# EAGLE library part AT91SAM9261 (library Atmel)
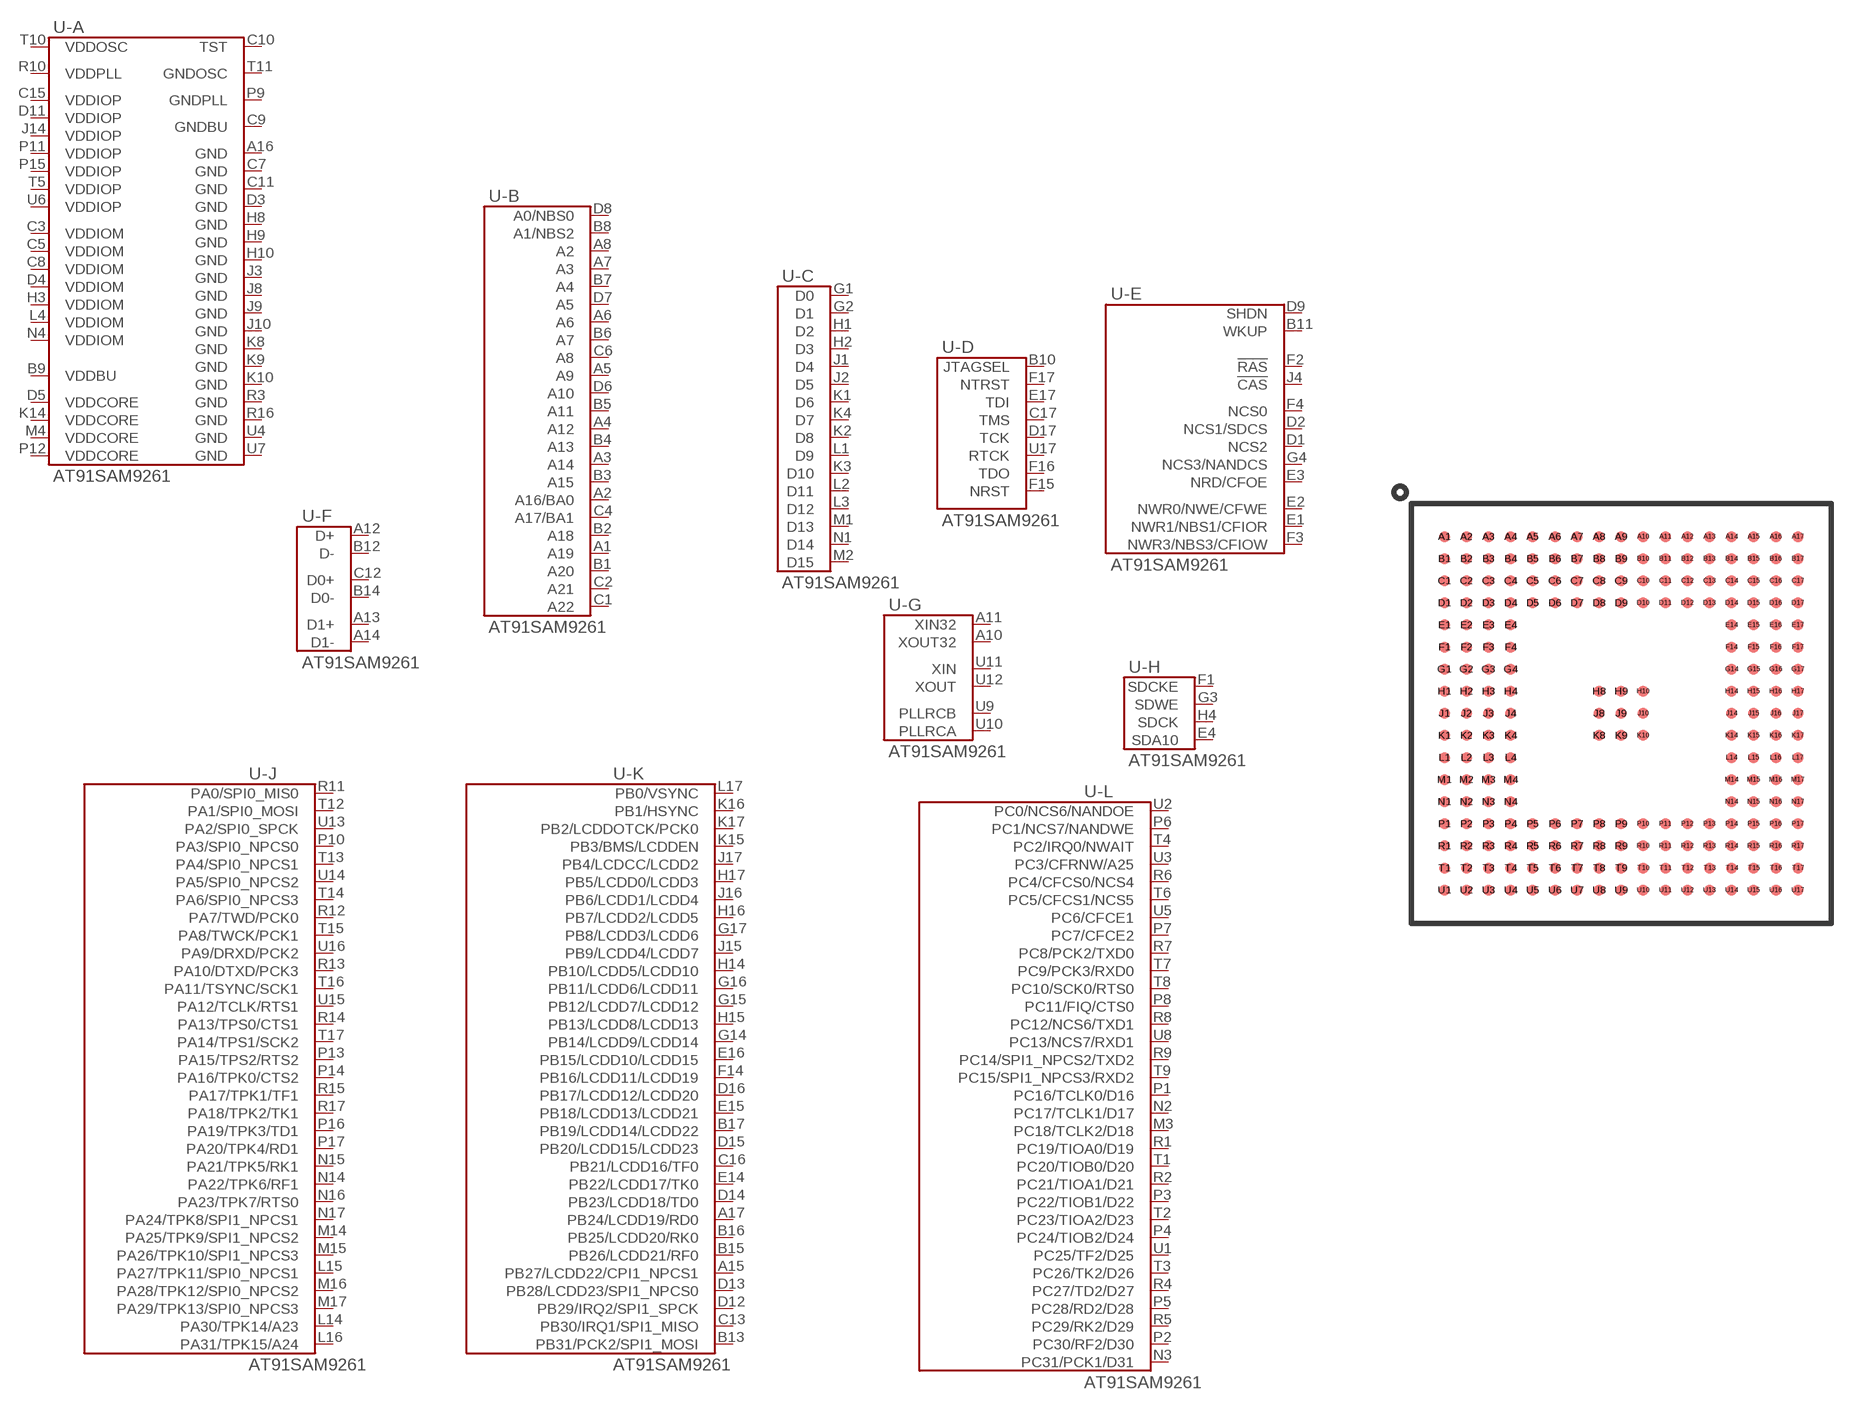
[diagram p12: symbol with the pads of LFBGA-217; footprint LFBGA-217]

Designator prefix U; gates -A=AT91SAM9261 -B=AT91SAM9261-ADDR -C=AT91SAM9261-DATA -D=AT91SAM9261-JTAG -E=AT91SAM9261-MISC -G=AT91SAM9261-OSC -J=AT91SAM9261-PORTA -K=AT91SAM9261-PORTB -L=AT91SAM9261-PORTC -H=AT91SAM9261-SD -F=AT91SAM9261-USB

## AT91SAM9261  [LFBGA-217]
A1  -B:A19
A2  -B:A16/BA0
A3  -B:A14
A4  -B:A12
A5  -B:A9
A6  -B:A6
A7  -B:A3
A8  -B:A2
A10  -G:XOUT32
A11  -G:XIN32
A12  -F:D+
A13  -F:D1+
A14  -F:D1-
A15  -K:PB27/LCDD22/CPI1_NPCS1
A16  -A:GND
A17  -K:PB24/LCDD19/RD0
B1  -B:A20
B2  -B:A18
B3  -B:A15
B4  -B:A13
B5  -B:A11
B6  -B:A7
B7  -B:A4
B8  -B:A1/NBS2
B9  -A:VDDBU
B10  -D:JTAGSEL
B11  -E:WKUP
B12  -F:D-
B13  -K:PB31/PCK2/SPI1_MOSI
B14  -F:D0-
B15  -K:PB26/LCDD21/RF0
B16  -K:PB25/LCDD20/RK0
B17  -K:PB19/LCDD14/LCDD22
C1  -B:A22
C2  -B:A21
C3  -A:VDDIOM
C4  -B:A17/BA1
C5  -A:VDDIOM
C6  -B:A8
C7  -A:GND
C8  -A:VDDIOM
C9  -A:GNDBU
C10  -A:TST
C11  -A:GND
C12  -F:D0+
C13  -K:PB30/IRQ1/SPI1_MISO
C15  -A:VDDIOP
C16  -K:PB21/LCDD16/TF0
C17  -D:TMS
D1  -E:NCS2
D2  -E:NCS1/SDCS
D3  -A:GND
D4  -A:VDDIOM
D5  -A:VDDCORE
D6  -B:A10
D7  -B:A5
D8  -B:A0/NBS0
D9  -E:SHDN
D11  -A:VDDIOP
D12  -K:PB29/IRQ2/SPI1_SPCK
D13  -K:PB28/LCDD23/SPI1_NPCS0
D14  -K:PB23/LCDD18/TD0
D15  -K:PB20/LCDD15/LCDD23
D16  -K:PB17/LCDD12/LCDD20
D17  -D:TCK
E1  -E:NWR1/NBS1/CFIOR
E2  -E:NWR0/NWE/CFWE
E3  -E:NRD/CFOE
E4  -H:SDA10
E14  -K:PB22/LCDD17/TK0
E15  -K:PB18/LCDD13/LCDD21
E16  -K:PB15/LCDD10/LCDD15
E17  -D:TDI
F1  -H:SDCKE
F2  -E:!RAS
F3  -E:NWR3/NBS3/CFIOW
F4  -E:NCS0
F14  -K:PB16/LCDD11/LCDD19
F15  -D:NRST
F16  -D:TDO
F17  -D:NTRST
G1  -C:D0
G2  -C:D1
G3  -H:SDWE
G4  -E:NCS3/NANDCS
G14  -K:PB14/LCDD9/LCDD14
G15  -K:PB12/LCDD7/LCDD12
G16  -K:PB11/LCDD6/LCDD11
G17  -K:PB8/LCDD3/LCDD6
H1  -C:D2
H2  -C:D3
H3  -A:VDDIOM
H4  -H:SDCK
H8  -A:GND
H9  -A:GND
H10  -A:GND
H14  -K:PB10/LCDD5/LCDD10
H15  -K:PB13/LCDD8/LCDD13
H16  -K:PB7/LCDD2/LCDD5
H17  -K:PB5/LCDD0/LCDD3
J1  -C:D4
J2  -C:D5
J3  -A:GND
J4  -E:!CAS
J8  -A:GND
J9  -A:GND
J10  -A:GND
J14  -A:VDDIOP
J15  -K:PB9/LCDD4/LCDD7
J16  -K:PB6/LCDD1/LCDD4
J17  -K:PB4/LCDCC/LCDD2
K1  -C:D6
K2  -C:D8
K3  -C:D10
K4  -C:D7
K8  -A:GND
K9  -A:GND
K10  -A:GND
K14  -A:VDDCORE
K15  -K:PB3/BMS/LCDDEN
K16  -K:PB1/HSYNC
K17  -K:PB2/LCDDOTCK/PCK0
L1  -C:D9
L2  -C:D11
L3  -C:D12
L4  -A:VDDIOM
L14  -J:PA30/TPK14/A23
L15  -J:PA27/TPK11/SPI0_NPCS1
L16  -J:PA31/TPK15/A24
L17  -K:PB0/VSYNC
M1  -C:D13
M2  -C:D15
M3  -L:PC18/TCLK2/D18
M4  -A:VDDCORE
M14  -J:PA25/TPK9/SPI1_NPCS2
M15  -J:PA26/TPK10/SPI1_NPCS3
M16  -J:PA28/TPK12/SPI0_NPCS2
M17  -J:PA29/TPK13/SPI0_NPCS3
N1  -C:D14
N2  -L:PC17/TCLK1/D17
N3  -L:PC31/PCK1/D31
N4  -A:VDDIOM
N14  -J:PA22/TPK6/RF1
N15  -J:PA21/TPK5/RK1
N16  -J:PA23/TPK7/RTS0
N17  -J:PA24/TPK8/SPI1_NPCS1
P1  -L:PC16/TCLK0/D16
P2  -L:PC30/RF2/D30
P3  -L:PC22/TIOB1/D22
P4  -L:PC24/TIOB2/D24
P5  -L:PC28/RD2/D28
P6  -L:PC1/NCS7/NANDWE
P7  -L:PC7/CFCE2
P8  -L:PC11/FIQ/CTS0
P9  -A:GNDPLL
P10  -J:PA3/SPI0_NPCS0
P11  -A:VDDIOP
P12  -A:VDDCORE
P13  -J:PA15/TPS2/RTS2
P14  -J:PA16/TPK0/CTS2
P15  -A:VDDIOP
P16  -J:PA19/TPK3/TD1
P17  -J:PA20/TPK4/RD1
R1  -L:PC19/TIOA0/D19
R2  -L:PC21/TIOA1/D21
R3  -A:GND
R4  -L:PC27/TD2/D27
R5  -L:PC29/RK2/D29
R6  -L:PC4/CFCS0/NCS4
R7  -L:PC8/PCK2/TXD0
R8  -L:PC12/NCS6/TXD1
R9  -L:PC14/SPI1_NPCS2/TXD2
R10  -A:VDDPLL
R11  -J:PA0/SPI0_MIS0
R12  -J:PA7/TWD/PCK0
R13  -J:PA10/DTXD/PCK3
R14  -J:PA13/TPS0/CTS1
R15  -J:PA17/TPK1/TF1
R16  -A:GND
R17  -J:PA18/TPK2/TK1
T1  -L:PC20/TIOB0/D20
T2  -L:PC23/TIOA2/D23
T3  -L:PC26/TK2/D26
T4  -L:PC2/IRQ0/NWAIT
T5  -A:VDDIOP
T6  -L:PC5/CFCS1/NCS5
T7  -L:PC9/PCK3/RXD0
T8  -L:PC10/SCK0/RTS0
T9  -L:PC15/SPI1_NPCS3/RXD2
T10  -A:VDDOSC
T11  -A:GNDOSC
T12  -J:PA1/SPI0_MOSI
T13  -J:PA4/SPI0_NPCS1
T14  -J:PA6/SPI0_NPCS3
T15  -J:PA8/TWCK/PCK1
T16  -J:PA11/TSYNC/SCK1
T17  -J:PA14/TPS1/SCK2
U1  -L:PC25/TF2/D25
U2  -L:PC0/NCS6/NANDOE
U3  -L:PC3/CFRNW/A25
U4  -A:GND
U5  -L:PC6/CFCE1
U6  -A:VDDIOP
U7  -A:GND
U8  -L:PC13/NCS7/RXD1
U9  -G:PLLRCB
U10  -G:PLLRCA
U11  -G:XIN
U12  -G:XOUT
U13  -J:PA2/SPI0_SPCK
U14  -J:PA5/SPI0_NPCS2
U15  -J:PA12/TCLK/RTS1
U16  -J:PA9/DRXD/PCK2
U17  -D:RTCK

## Footprint LFBGA-217 (pad centres in mm)
smd 0.4 x 0.4: A1 -6.4,6.4; A2 -5.6,6.4; A3 -4.8,6.4; A4 -4,6.4; A5 -3.2,6.4; A6 -2.4,6.4; A7 -1.6,6.4; A8 -0.8,6.4; A9 0,6.4; A10 0.8,6.4; A11 1.6,6.4; A12 2.4,6.4; A13 3.2,6.4; A14 4,6.4; A15 4.8,6.4; A16 5.6,6.4; A17 6.4,6.4; B1 -6.4,5.6; B2 -5.6,5.6; B3 -4.8,5.6; B4 -4,5.6; B5 -3.2,5.6; B6 -2.4,5.6; B7 -1.6,5.6; B8 -0.8,5.6; B9 0,5.6; B10 0.8,5.6; B11 1.6,5.6; B12 2.4,5.6; B13 3.2,5.6; B14 4,5.6; B15 4.8,5.6; B16 5.6,5.6; B17 6.4,5.6; C1 -6.4,4.8; C2 -5.6,4.8; C3 -4.8,4.8; C4 -4,4.8; C5 -3.2,4.8; C6 -2.4,4.8; C7 -1.6,4.8; C8 -0.8,4.8; C9 0,4.8; C10 0.8,4.8; C11 1.6,4.8; C12 2.4,4.8; C13 3.2,4.8; C14 4,4.8; C15 4.8,4.8; C16 5.6,4.8; C17 6.4,4.8; D1 -6.4,4; D2 -5.6,4; D3 -4.8,4; D4 -4,4; D5 -3.2,4; D6 -2.4,4; D7 -1.6,4; D8 -0.8,4; D9 0,4; D10 0.8,4; D11 1.6,4; D12 2.4,4; D13 3.2,4; D14 4,4; D15 4.8,4; D16 5.6,4; D17 6.4,4; E1 -6.4,3.2; E2 -5.6,3.2; E3 -4.8,3.2; E4 -4,3.2; E14 4,3.2; E15 4.8,3.2; E16 5.6,3.2; E17 6.4,3.2; F1 -6.4,2.4; F2 -5.6,2.4; F3 -4.8,2.4; F4 -4,2.4; F14 4,2.4; F15 4.8,2.4; F16 5.6,2.4; F17 6.4,2.4; G1 -6.4,1.6; G2 -5.6,1.6; G3 -4.8,1.6; G4 -4,1.6; G14 4,1.6; G15 4.8,1.6; G16 5.6,1.6; G17 6.4,1.6; H1 -6.4,0.8; H2 -5.6,0.8; H3 -4.8,0.8; H4 -4,0.8; H8 -0.8,0.8; H9 0,0.8; H10 0.8,0.8; H14 4,0.8; H15 4.8,0.8; H16 5.6,0.8; H17 6.4,0.8; J1 -6.4,0; J2 -5.6,0; J3 -4.8,0; J4 -4,0; J8 -0.8,0; J9 0,0; J10 0.8,0; J14 4,0; J15 4.8,0; J16 5.6,0; J17 6.4,0; K1 -6.4,-0.8; K2 -5.6,-0.8; K3 -4.8,-0.8; K4 -4,-0.8; K8 -0.8,-0.8; K9 0,-0.8; K10 0.8,-0.8; K14 4,-0.8; K15 4.8,-0.8; K16 5.6,-0.8; K17 6.4,-0.8; L1 -6.4,-1.6; L2 -5.6,-1.6; L3 -4.8,-1.6; L4 -4,-1.6; L14 4,-1.6; L15 4.8,-1.6; L16 5.6,-1.6; L17 6.4,-1.6; M1 -6.4,-2.4; M2 -5.6,-2.4; M3 -4.8,-2.4; M4 -4,-2.4; M14 4,-2.4; M15 4.8,-2.4; M16 5.6,-2.4; M17 6.4,-2.4; N1 -6.4,-3.2; N2 -5.6,-3.2; N3 -4.8,-3.2; N4 -4,-3.2; N14 4,-3.2; N15 4.8,-3.2; N16 5.6,-3.2; N17 6.4,-3.2; P1 -6.4,-4; P2 -5.6,-4; P3 -4.8,-4; P4 -4,-4; P5 -3.2,-4; P6 -2.4,-4; P7 -1.6,-4; P8 -0.8,-4; P9 0,-4; P10 0.8,-4; P11 1.6,-4; P12 2.4,-4; P13 3.2,-4; P14 4,-4; P15 4.8,-4; P16 5.6,-4; P17 6.4,-4; R1 -6.4,-4.8; R2 -5.6,-4.8; R3 -4.8,-4.8; R4 -4,-4.8; R5 -3.2,-4.8; R6 -2.4,-4.8; R7 -1.6,-4.8; R8 -0.8,-4.8; R9 0,-4.8; R10 0.8,-4.8; R11 1.6,-4.8; R12 2.4,-4.8; R13 3.2,-4.8; R14 4,-4.8; R15 4.8,-4.8; R16 5.6,-4.8; R17 6.4,-4.8; T1 -6.4,-5.6; T2 -5.6,-5.6; T3 -4.8,-5.6; T4 -4,-5.6; T5 -3.2,-5.6; T6 -2.4,-5.6; T7 -1.6,-5.6; T8 -0.8,-5.6; T9 0,-5.6; T10 0.8,-5.6; T11 1.6,-5.6; T12 2.4,-5.6; T13 3.2,-5.6; T14 4,-5.6; T15 4.8,-5.6; T16 5.6,-5.6; T17 6.4,-5.6; U1 -6.4,-6.4; U2 -5.6,-6.4; U3 -4.8,-6.4; U4 -4,-6.4; U5 -3.2,-6.4; U6 -2.4,-6.4; U7 -1.6,-6.4; U8 -0.8,-6.4; U9 0,-6.4; U10 0.8,-6.4; U11 1.6,-6.4; U12 2.4,-6.4; U13 3.2,-6.4; U14 4,-6.4; U15 4.8,-6.4; U16 5.6,-6.4; U17 6.4,-6.4